# Altium footprint library PcbLib1.PcbLib: 16 footprints
Each footprint in its own frame and in the unit in brackets; x right, y up, seen from the top. Pads: shape width x height; smd on the part's side, far side on the other; paste and mask are expansions set on the pad; w line width, h text height; cw(c..) or ccw(c..) is an arc to the next point about the centre after c.
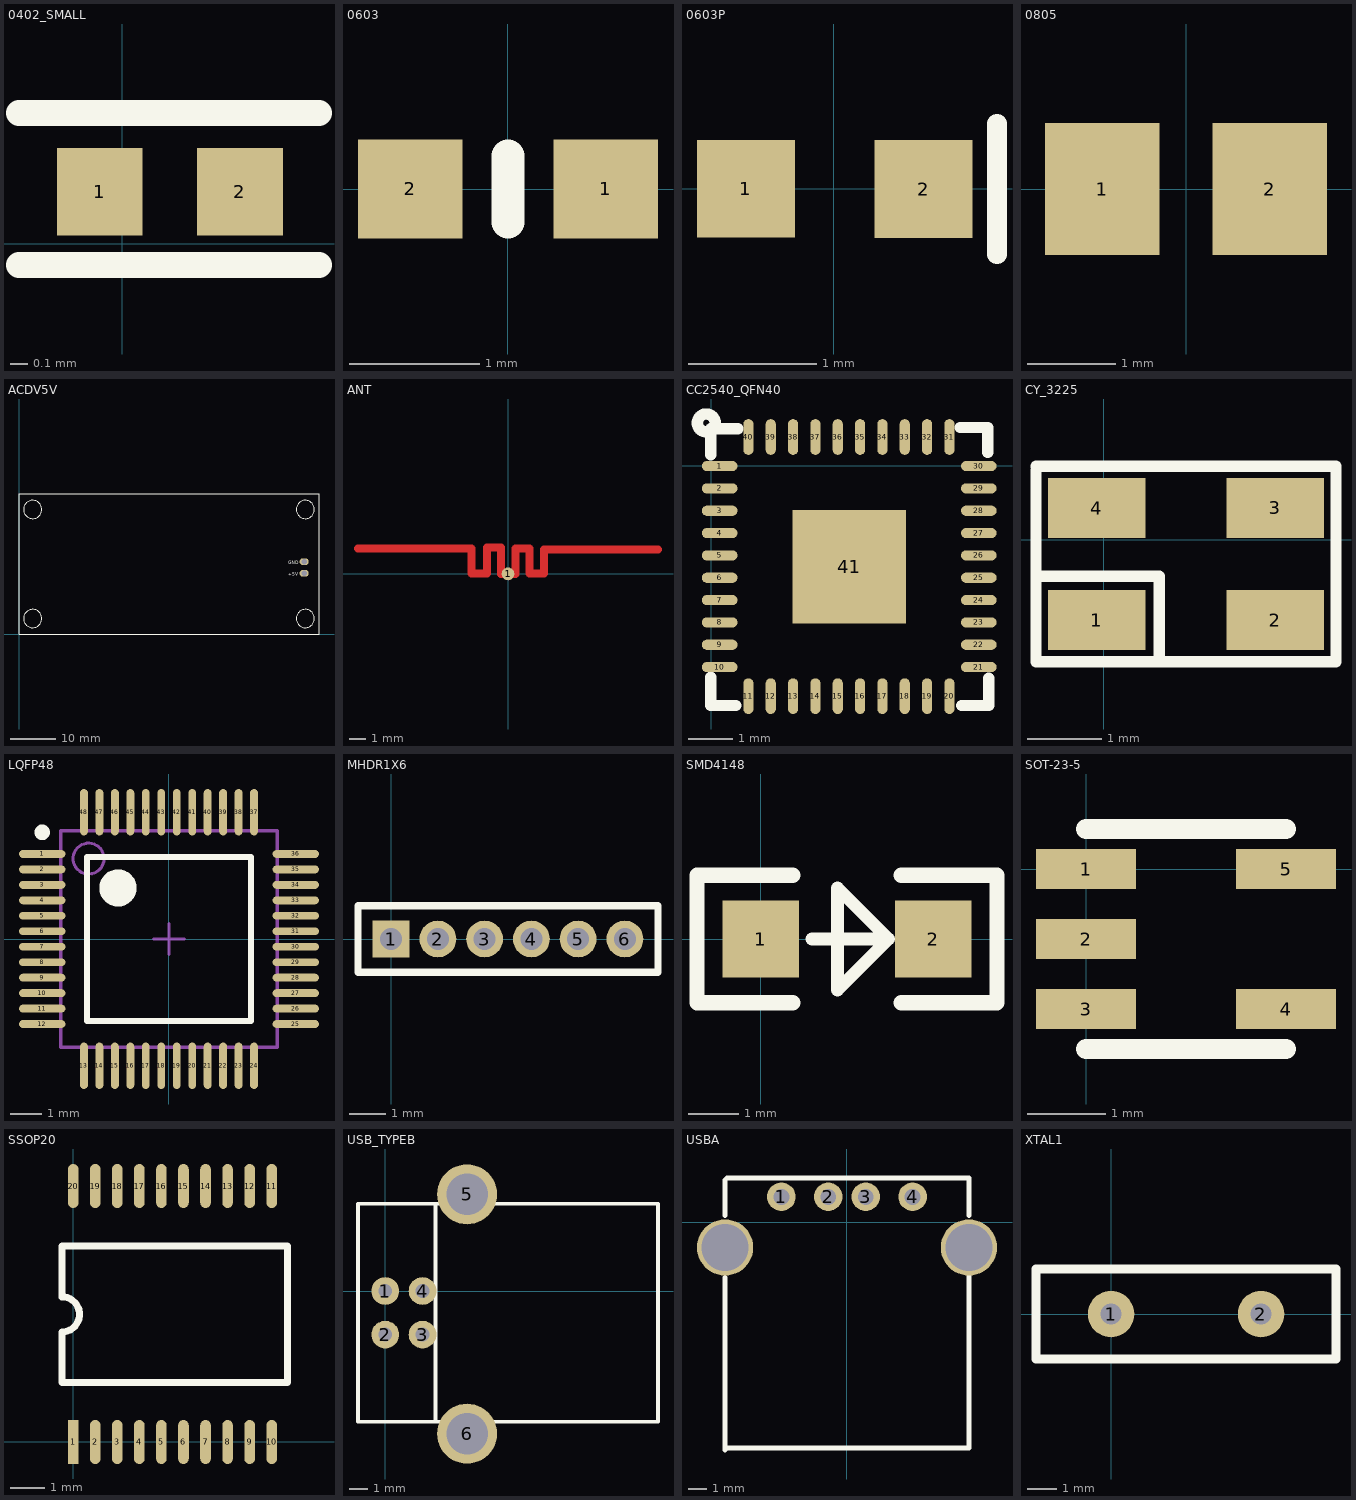
[diagram p0: the footprints below, top view; thin cyan lines are the x and y axes]

## 0402_SMALL [mm]
pads (2):
  rect 0.5x0.51 smd: 1(-0.13,0.305) 2(0.689,0.305)
Top Overlay:
  lines w0.152: -0.602,-0.123 1.151,-0.123 ; -0.602,0.766 1.151,0.766

## 0603 [mm]
pads (2):
  rect 0.8x0.762 smd: 1(0.75,0) 2(-0.75,0)
Top Overlay:
  lines w0.254: 0,-0.254 0,0.254

## 0603P [mil]
height 35.43
pads (2):
  rect 30x30 smd: 1(-27,0) 2(27.5,-0.06)
Top Overlay:
  lines w6: 50,-20.06 50,19.94

## 0805 [mm] "Chip Resistor; Body 2.0 x 1.3 mm (LxW typ)"
height 0.65
pads (2):
  rect 1.3x1.5 smd: 1(-0.95,0) 2(0.95,0)

## ACDV5V [mm]
pads (2):
  oval 2x1.5 hole 1.2: 3(62.738,16) 4(62.738,13.46)
Top Overlay:
  circle w0.1: c3,3.5 r2
  circle w0.1: c3,27.5 r2
  circle w0.1: c63,3.5 r2
  circle w0.1: c63,27.5 r2
  lines w0.203: 0,0 0,31 66,31 66,0 0,0
  text "GND" at 59.182,15.494 h0.76
  text "+5V" at 59.182,12.954 h0.76

## ANT [mm]
pads (1):
  round 0.8 smd: 1(0,0)
Top Layer:
  lines w0.5: -9.322,1.575 -2.261,1.575 -2.261,0.025 -1.295,0.025 -1.295,1.626 -0.432,1.626 -0.432,0 0.457,0 0.457,1.575 1.346,1.575 1.346,0.025 2.235,0.025 2.235,1.524 9.322,1.524

## CC2540_QFN40 [mm]
pads (41):
  oval 0.8x0.229 smd: 1(0.189,-0.009) 2(0.189,-0.509) 3(0.189,-1.009) 4(0.189,-1.509) 5(0.189,-2.009) 6(0.189,-2.509) 7(0.189,-3.009) 8(0.189,-3.509) 9(0.189,-4.009) 10(0.189,-4.509) 21(5.989,-4.509) 22(5.989,-4.009) 23(5.989,-3.509) 24(5.989,-3.009) 25(5.989,-2.509) 26(5.989,-2.009) 27(5.989,-1.509) 28(5.989,-1.009) 29(5.989,-0.509) 30(5.989,-0.009)
  oval 0.229x0.8 smd: 11(0.832,-5.159) 12(1.332,-5.159) 13(1.832,-5.159) 14(2.332,-5.159) 15(2.832,-5.159) 16(3.332,-5.159) 17(3.832,-5.159) 18(4.332,-5.159) 19(4.832,-5.159) 20(5.332,-5.159) 31(5.332,0.641) 32(4.832,0.641) 33(4.332,0.641) 34(3.832,0.641) 35(3.332,0.641) 36(2.832,0.641) 37(2.332,0.641) 38(1.832,0.641) 39(1.332,0.641) 40(0.832,0.641)
  rect 2.54x2.54 smd: 41(3.089,-2.259)
Top Overlay:
  circle w0.254: c-0.11,0.956 r0.2
  lines w0.254: -0.011,-4.734 -0.011,-5.369 0.548,-5.369 ; -0.011,0.245 -0.011,0.829 0.598,0.829 ; 5.577,0.854 6.186,0.854 6.186,0.295 ; 5.602,-5.369 6.212,-5.369 6.212,-4.759

## CY_3225 [mm]
height 0.9
pads (4):
  rect 1.3x0.8 smd: 1(-0.095,-1.07) 2(2.293,-1.07) 3(2.293,0.428) 4(-0.095,0.428)
Top Overlay:
  lines w0.152: -0.908,-1.477 -0.908,-1.401 ; -0.908,-0.486 0.743,-0.486 0.743,-1.629 ; -0.908,0.936 -0.908,-1.629 3.004,-1.629 ; -0.908,0.987 3.004,0.987 ; 1.455,0.987 3.106,0.987 3.106,-1.629 2.928,-1.629

## LQFP48 [mm]
pads (48):
  oval 1.5x0.254 smd: 1(-4.1,2.75) 2(-4.1,2.25) 3(-4.1,1.75) 4(-4.1,1.25) 5(-4.1,0.75) 6(-4.1,0.25) 7(-4.1,-0.25) 8(-4.1,-0.75) 9(-4.1,-1.25) 10(-4.1,-1.75) 11(-4.1,-2.25) 12(-4.1,-2.75) 25(4.1,-2.75) 26(4.1,-2.25) 27(4.1,-1.75) 28(4.1,-1.25) 29(4.1,-0.75) 30(4.1,-0.25) 31(4.1,0.25) 32(4.1,0.75) 33(4.1,1.25) 34(4.1,1.75) 35(4.1,2.25) 36(4.1,2.75)
  oval 0.254x1.5 smd: 13(-2.75,-4.1) 14(-2.25,-4.1) 15(-1.75,-4.1) 16(-1.25,-4.1) 17(-0.75,-4.1) 18(-0.25,-4.1) 19(0.25,-4.1) 20(0.75,-4.1) 21(1.25,-4.1) 22(1.75,-4.1) 23(2.25,-4.1) 24(2.75,-4.1) 37(2.75,4.1) 38(2.25,4.1) 39(1.75,4.1) 40(1.25,4.1) 41(0.75,4.1) 42(0.25,4.1) 43(-0.25,4.1) 44(-0.75,4.1) 45(-1.25,4.1) 46(-1.75,4.1) 47(-2.25,4.1) 48(-2.75,4.1)
Top Overlay:
  circle w0.6: c-1.65,1.65 r0.3
  circle w0.25: c-4.1,3.45 r0.125
  lines w0.203: -2.65,-2.65 2.65,-2.65 2.65,2.65 -2.65,2.65 -2.65,-2.65
Mechanical 13:
  circle w0.1: c-2.6,2.6 r0.5
  lines w0.1: -3.5,-3.5 3.5,-3.5 3.5,3.5 -3.5,3.5 -3.5,-3.5
Mechanical 15:
  lines w0.1: -0.5,0 0.5,0 ; 0,-0.5 0,0.5

## MHDR1X6 [mm] "Connector; Header; 6 Position"
height 0.9
pads (6):
  rect 1x1 hole 0.6: 1(0,0)
  round 1 hole 0.6: 2(1.27,0) 3(2.54,0) 4(3.81,0) 5(5.08,0) 6(6.35,0)
Top Overlay:
  lines w0.2: -0.9,-0.9 7.25,-0.9 7.25,0.9 -0.9,0.9 -0.9,-0.9

## SMD4148 [mil]
pads (2):
  rect 60x60 smd: 1(0,0) 2(135,0)
Top Overlay:
  lines w10: 40,0 60,0 100,0 ; 100,0 60,-40 60,40 100,0
  lines w12: 25,-50 -50,-50 -50,50 25,50 ; 110,-50 185,-50 185,50 110,50

## SOT-23-5 [mil]
pads (5):
  rect 50x20 smd: 1(0,0) 2(0,-35) 3(0,-70) 4(100,-70) 5(100,0)
Top Overlay:
  lines w10: 0,-90 100,-90 ; 0,20 100,20

## SSOP20 [mil]
pads (20):
  rect 12x50 smd: 1(0,0)
  oval 12x50 smd: 2(25,0) 3(50,0) 4(75,0) 5(100,0) 6(125,0) 7(150,0) 8(175,0) 9(200,0) 10(225,0) 11(225,290) 12(200,290) 13(175,290) 14(150,290) 15(125,290) 16(100,290) 17(75,290) 18(50,290) 19(25,290) 20(0,290)
Top Overlay:
  lines w7.87: -12.79,124 -12.79,67.24 243.11,67.24 243.11,221.97 -12.79,221.97 -12.79,164 ; -12.8,124.61 ccw(c-12.79,144.61) -12.79,164.61

## USB_TYPEB [mil]
pads (6):
  round 60 hole 30: 1(0,0) 2(0,-94.49) 3(80.71,-94.49) 4(80.71,0)
  round 130 hole 90: 5(177.16,209.45) 6(177.16,-309.05)
Top Overlay:
  lines w7.87: 108.66,-283.46 108.66,188.98 ; -59.06,-283.46 590.55,-283.46 590.55,188.98 -59.06,188.98 -59.06,-283.46

## USBA [mm]
height 12
pads (6):
  round 1.524 hole 0.85: 1(-3.5,1.35) 2(-1,1.35) 3(1,1.35) 4(3.5,1.35)
  round 3 hole 2.5: ""(-6.5,-1.35) ""(6.5,-1.35)
Top Overlay:
  lines w0.254: -6.5,-12.15 -6.5,-2.95 ; -6.5,0.35 -6.5,2.25 -6.4,2.35 -4.5,2.35 6.5,2.35 6.5,0.35 ; -6.4,-12.05 6.5,-12.05 6.5,-2.75

## XTAL1 [mil]
pads (2):
  round 62 hole 28: 1(0,0) 2(200,0)
Top Overlay:
  lines w12: -100,-60 300,-60 300,60 -100,60 -100,-60